# Altium footprint library EC2-3NU.PcbLib: 2 footprints
Each footprint in its own frame and in the unit in brackets; x right, y up, seen from the top. Pads: shape width x height; smd on the part's side, far side on the other; paste and mask are expansions set on the pad; w line width, h text height; cw(c..) or ccw(c..) is an arc to the next point about the centre after c.
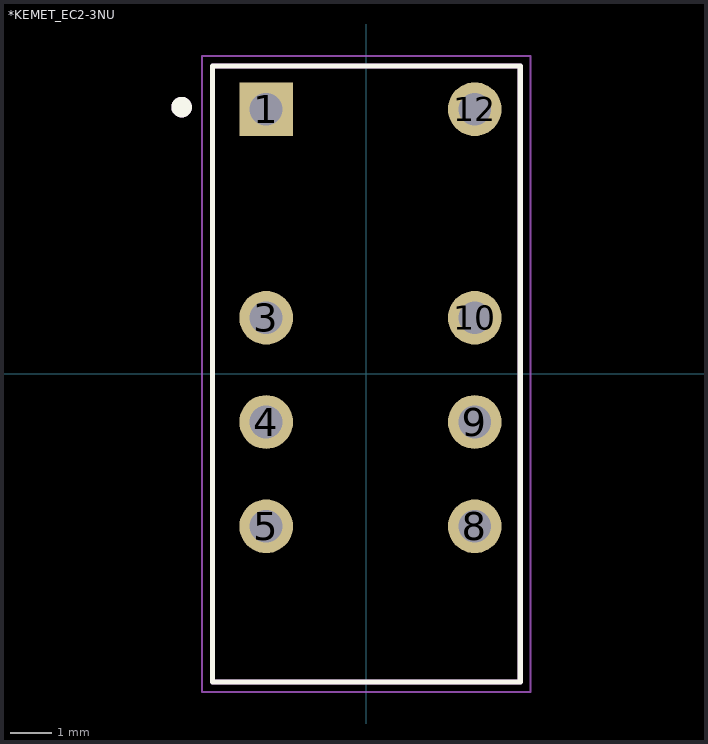
[diagram p0: the footprints below, top view; thin cyan lines are the x and y axes]

## *KEMET_EC2-3NU [mm]
pads (8):
  rect 1.308x1.308 hole 0.8: 1(-2.44,6.45)
  round 1.308 hole 0.8: 3(-2.44,1.37) 4(-2.44,-1.17) 5(-2.44,-3.71) 8(2.64,-3.71) 9(2.64,-1.17) 10(2.64,1.37) 12(2.64,6.45)
Top Overlay:
  circle w0.3: c-4.5,6.5 r0.1
  lines w0.127: -3.75,-7.5 3.75,-7.5 3.75,7.5 -3.75,7.5 -3.75,-7.5
Mechanical 4:
  circle w0.3: c-4.5,6.5 r0.1
  circle w0.3: c-4.5,6.5 r0.1
  lines w0.127: -3.75,-7.5 -3.75,7.5 ; -3.75,-7.5 3.75,-7.5 ; -3.75,-7.5 -3.75,7.5 ; -3.75,-7.5 3.75,-7.5 ; -3.75,7.5 3.75,7.5 ; -3.75,7.5 3.75,7.5 ; 3.75,-7.5 3.75,7.5 ; 3.75,-7.5 3.75,7.5
Mechanical 16:
  lines w0.05: -4,-7.75 -4,7.75 4,7.75 4,-7.75 -4,-7.75

## PCBComponent_1 [mm]